# Altium schematic symbol library Audio-Power-amlifier.SCHLIB: 61 symbols
Pins are listed as number, name and electrical type; pins without a type are passive.

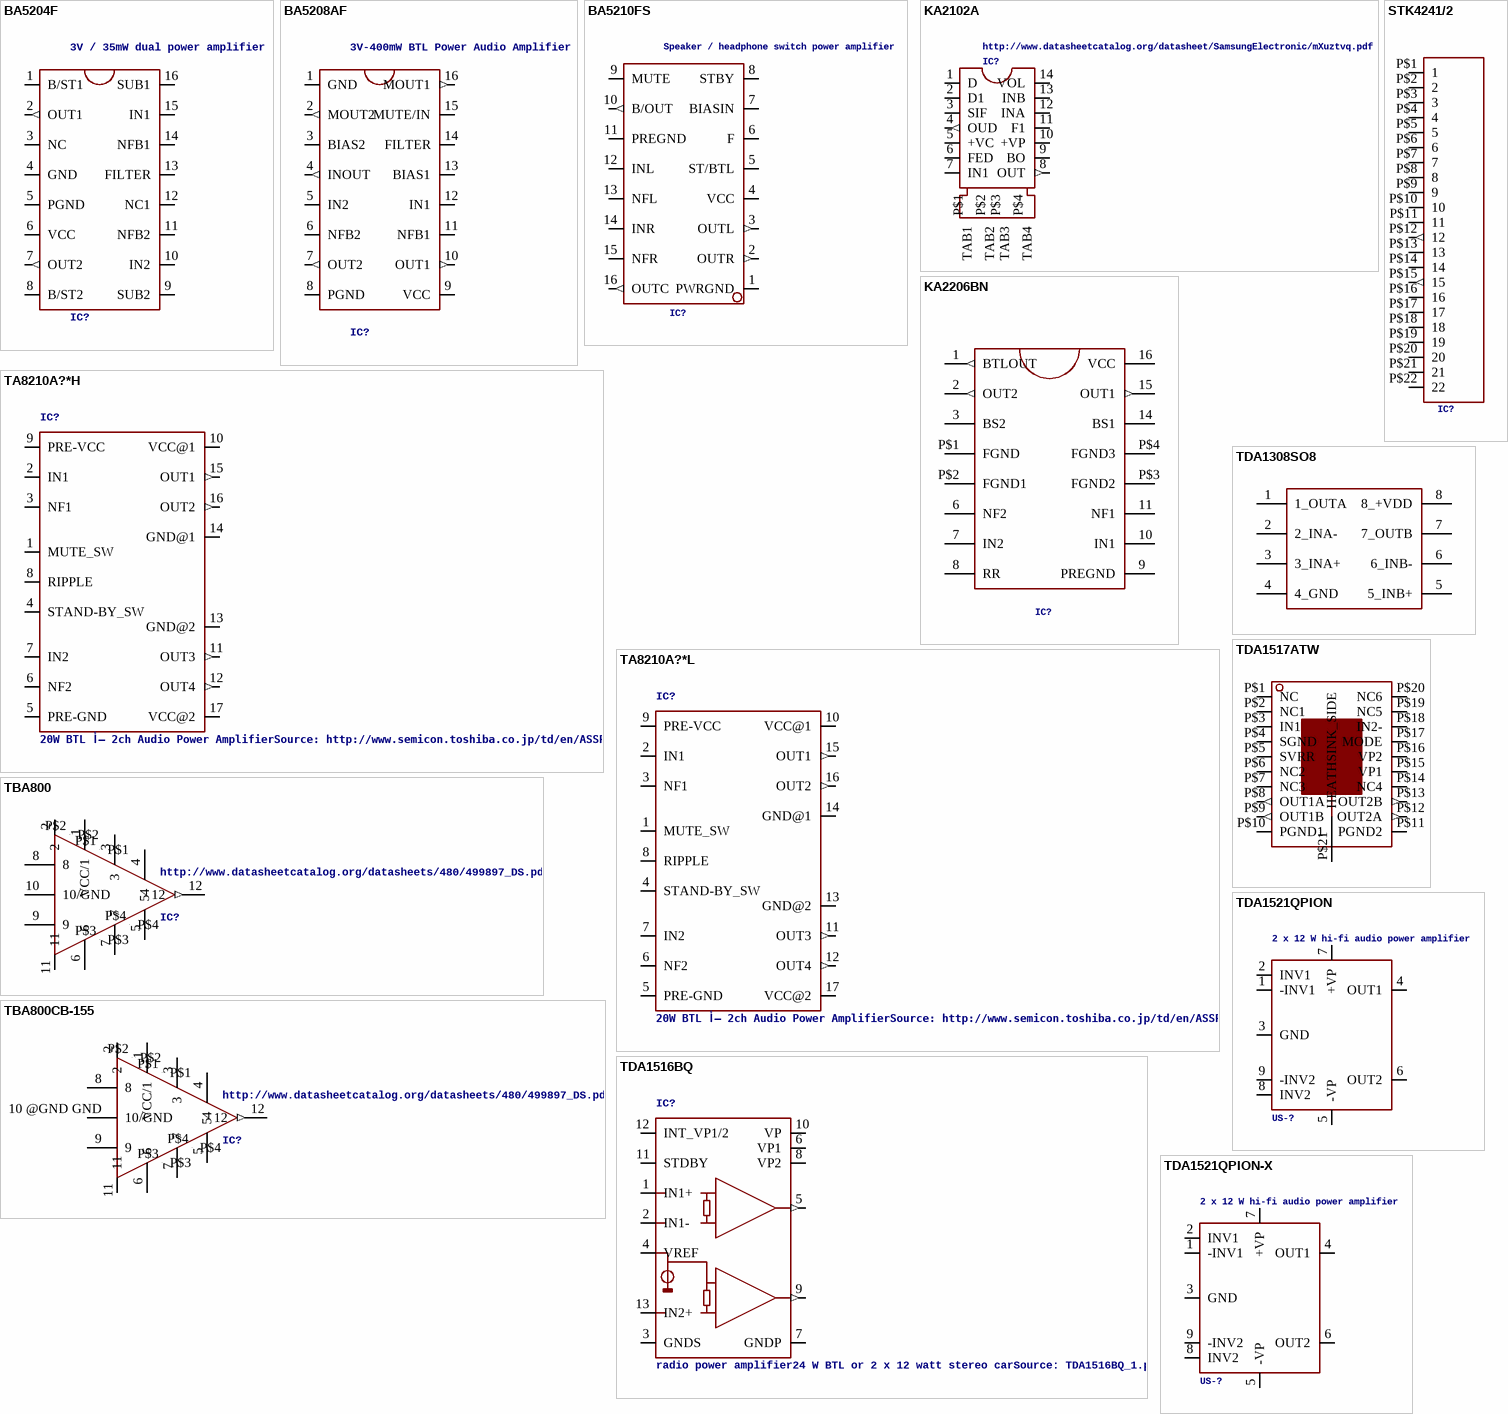
[diagram p0: symbols BA5204F to TDA1521QPION-X]

## BA5204F
designator IC?, comment 3V / 35mW dual power amplifier
GateName_1: G$1; SymbolName_1: BA5204F; LibraryName: Audio-Power-amlifier; DeviceSetName: BA5204F; Package: SOP16
footprint SOP16
pins: 1 B/ST1, 2 OUT1 (out), 3 NC, 4 GND (power), 5 PGND (power), 6 VCC (power), 7 OUT2 (out), 8 B/ST2, 9 SUB2, 10 IN2, 11 NFB2, 12 NC1, 13 FILTER, 14 NFB1, 15 IN1, 16 SUB1

## BA5208AF
designator IC?, comment 3V-400mW BTL Power Audio Amplifier
GateName_1: G$1; SymbolName_1: BA5208AF; LibraryName: Audio-Power-amlifier; DeviceSetName: BA5208AF; Package: SOP16
footprint SOP16
pins: 1 GND (power), 2 MOUT2 (out), 3 BIAS2, 4 INOUT (out), 5 IN2, 6 NFB2, 7 OUT2 (out), 8 PGND (power), 9 VCC (power), 10 OUT1 (out), 11 NFB1, 12 IN1, 13 BIAS1, 14 FILTER, 15 MUTE/IN, 16 MOUT1 (out)

## BA5210FS
designator IC?, comment Speaker / headphone switch power amplifier
GateName_1: G$1; SymbolName_1: BA5210FS; LibraryName: Audio-Power-amlifier; DeviceSetName: BA5210FS; Package: SSOP-A16
footprint SSOP-A16
pins: 1 PWRGND (power), 2 OUTR (out), 3 OUTL (out), 4 VCC (power), 5 ST/BTL, 6 F, 7 BIASIN, 8 STBY, 9 MUTE, 10 B/OUT (out), 11 PREGND (power), 12 INL, 13 NFL, 14 INR, 15 NFR, 16 OUTC (out)

## KA2102A
designator IC?, comment http://www.datasheetcatalog.org/datasheet/SamsungElectronic/mXuztvq.pdf
GateName_1: G$1; SymbolName_1: KA2102A; LibraryName: Audio-Power-amlifier; DeviceSetName: KA2102A; Package: 14-DIPH-300
footprint 14-DIPH-300
pins: 1 D, 2 D1, 3 SIF, 4 OUD (out), 5 +VC (power), 6 FED, 7 IN1, 8 OUT (out), 9 BO, 10 +VP (power), 11 F1, 12 INA, 13 INB, 14 VOL, P$1 TAB1, P$2 TAB2, P$3 TAB3, P$4 TAB4

## KA2206BN
designator IC?
GateName_1: G$1; SymbolName_1: KA2206BN; LibraryName: Audio-Power-amlifier; DeviceSetName: KA2206BN; Package: 12-DIPH-300
footprint 12-DIPH-300
pins: 1 BTLOUT (out), 2 OUT2 (out), 3 BS2, 6 NF2, 7 IN2, 8 RR, 9 PREGND (power), 10 IN1, 11 NF1, 14 BS1, 15 OUT1 (out), 16 VCC (power), P$1 FGND (power), P$2 FGND1 (power), P$3 FGND2 (power), P$4 FGND3 (power)

## STK4241/2
designator IC?
GateName_1: G$1; SymbolName_1: STK4241/2; LibraryName: Audio-Power-amlifier; DeviceSetName: STK4241/2; Package: STK4241/2
footprint STK4241/2
pins: P$1 1, P$2 2, P$3 3, P$4 4, P$5 5 (power), P$6 6, P$7 7, P$8 8, P$9 9, P$10 10, P$11 11 (power), P$12 12 (out), P$13 13 (power), P$14 14 (power), P$15 15 (out), P$16 16 (power), P$17 17, P$18 18 (power), P$19 19, P$20 20, P$21 21, P$22 22

## TA8210A?*H
designator IC?, comment 20W BTL أ— 2ch Audio Power AmplifierSource: http://www.semicon.toshiba.co.jp/td/en/ASSP/Audio_ICs/en_20050517_TA8210ALQ_datasheet.pdf
GateName_1: G$1; SymbolName_1: TA8210; DeviceName: H; DeviceSetName: TA8210A?*; LibraryName: Audio-Power-amlifier; Package: HZIP17-P-2.00
footprint HZIP17-P-2.00
pins: 1 MUTE_SW, 2 IN1, 3 NF1, 4 STAND-BY_SW, 5 PRE-GND (power), 6 NF2, 7 IN2, 8 RIPPLE, 9 PRE-VCC (power), 10 VCC@1 (power), 11 OUT3 (out), 12 OUT4 (out), 13 GND@2 (power), 14 GND@1 (power), 15 OUT1 (out), 16 OUT2 (out), 17 VCC@2 (power)

## TA8210A?*L
designator IC?, comment 20W BTL أ— 2ch Audio Power AmplifierSource: http://www.semicon.toshiba.co.jp/td/en/ASSP/Audio_ICs/en_20050517_TA8210ALQ_datasheet.pdf
GateName_1: G$1; SymbolName_1: TA8210; DeviceName: L; DeviceSetName: TA8210A?*; LibraryName: Audio-Power-amlifier; Package: HSIP17-P-2.00
footprint HSIP17-P-2.00
pins: 1 MUTE_SW, 2 IN1, 3 NF1, 4 STAND-BY_SW, 5 PRE-GND (power), 6 NF2, 7 IN2, 8 RIPPLE, 9 PRE-VCC (power), 10 VCC@1 (power), 11 OUT3 (out), 12 OUT4 (out), 13 GND@2 (power), 14 GND@1 (power), 15 OUT1 (out), 16 OUT2 (out), 17 VCC@2 (power)

## TBA800
designator IC?, comment http://www.datasheetcatalog.org/datasheets/480/499897_DS.pdf
GateName_1: G$1; SymbolName_1: TBA800; LibraryName: Audio-Power-amlifier; DeviceSetName: TBA800; Package: FINDIP12
footprint FINDIP12
pins: 1 VCC/1 (power), 2, 3, 4, 5, 6, 7, 8, 9, 10 10/GND (power), 11, 12 (out), P$1 (power), P$2 (power), P$3 (power), P$4 (power)

## TBA800CB-155
designator IC?, comment http://www.datasheetcatalog.org/datasheets/480/499897_DS.pdf
GateName_1: G$1; SymbolName_1: TBA800; DeviceName: CB-155; LibraryName: Audio-Power-amlifier; DeviceSetName: TBA800; Package: CE82
footprint CE82
pins: 1 VCC/1 (power), 2, 3, 4, 5, 6, 7, 8, 9, 10 @GND GND 10/GND (power), 11, 12 (out), P$1 (power), P$2 (power), P$3 (power), P$4 (power)

## TDA1308SO8
designator ?
GateName_1: G$1; SymbolName_1: TDA1308; DeviceName: SO8; LibraryName: Audio-Power-amlifier; DeviceSetName: TDA1308; Package: SO8
footprint SO8
pins: 1 1_OUTA, 2 2_INA-, 3 3_INA+, 4 4_GND, 5 5_INB+, 6 6_INB-, 7 7_OUTB, 8 8_+VDD

## TDA1516BQ
designator IC?, comment radio power amplifier24 W BTL or 2 x 12 watt stereo carSource: TDA1516BQ_1.pdf
GateName_1: G$1; SymbolName_1: TDA1516; LibraryName: Audio-Power-amlifier; DeviceSetName: TDA1516BQ; Package: MULTIWAT-SIL13
footprint MULTIWAT-SIL13
pins: 1 IN1+, 2 IN1-, 3 GNDS (power), 4 VREF, 5 OUT1 (out), 6 VP1 (power), 7 GNDP (power), 8 VP2 (power), 9 OUT2 (out), 10 VP, 11 STDBY, 12 INT_VP1/2, 13 IN2+

## TDA1517ATW
designator IC?, comment 8 W BTL or 2 آ´ 4 W SE power amplifier  (value not drawn)
GateName_1: G$1; SymbolName_1: TDA1517ATW; LibraryName: Audio-Power-amlifier; DeviceSetName: TDA1517ATW; Package: SOT527-1
footprint SOT527-1
pins: P$1 NC, P$2 NC1, P$3 IN1, P$4 SGND (power), P$5 SVRR, P$6 NC2, P$7 NC3, P$8 OUT1A (out), P$9 OUT1B (out), P$10 PGND1 (power), P$11 PGND2 (power), P$12 OUT2A (out), P$13 OUT2B (out), P$14 NC4, P$15 VP1 (power), P$16 VP2 (power), P$17 MODE, P$18 IN2-, P$19 NC5, P$20 NC6, P$21 HEATHSINK_SIDE (power)

## TDA1521QPION
designator US-?, comment 2 x 12 W hi-fi audio power amplifier
GateName_1: TDA1521Q; DeviceName: PION; SymbolName_1: TDA1521Q; LibraryName: Audio-Power-amlifier; DeviceSetName: TDA1521Q; Package: SOT131-2H
footprint SOT131-2H
pins: 1 -INV1, 2 INV1, 3 GND, 4 OUT1, 5 -VP, 6 OUT2, 7 +VP, 8 INV2, 9 -INV2

## TDA1521QPION-X
designator US-?, comment 2 x 12 W hi-fi audio power amplifier
GateName_1: TDA1521Q; DeviceName: PION-X; SymbolName_1: TDA1521Q; LibraryName: Audio-Power-amlifier; DeviceSetName: TDA1521Q; Package: SOT131-2VX
footprint SOT131-2VX
pins: 1 -INV1, 2 INV1, 3 GND, 4 OUT1, 5 -VP, 6 OUT2, 7 +VP, 8 INV2, 9 -INV2

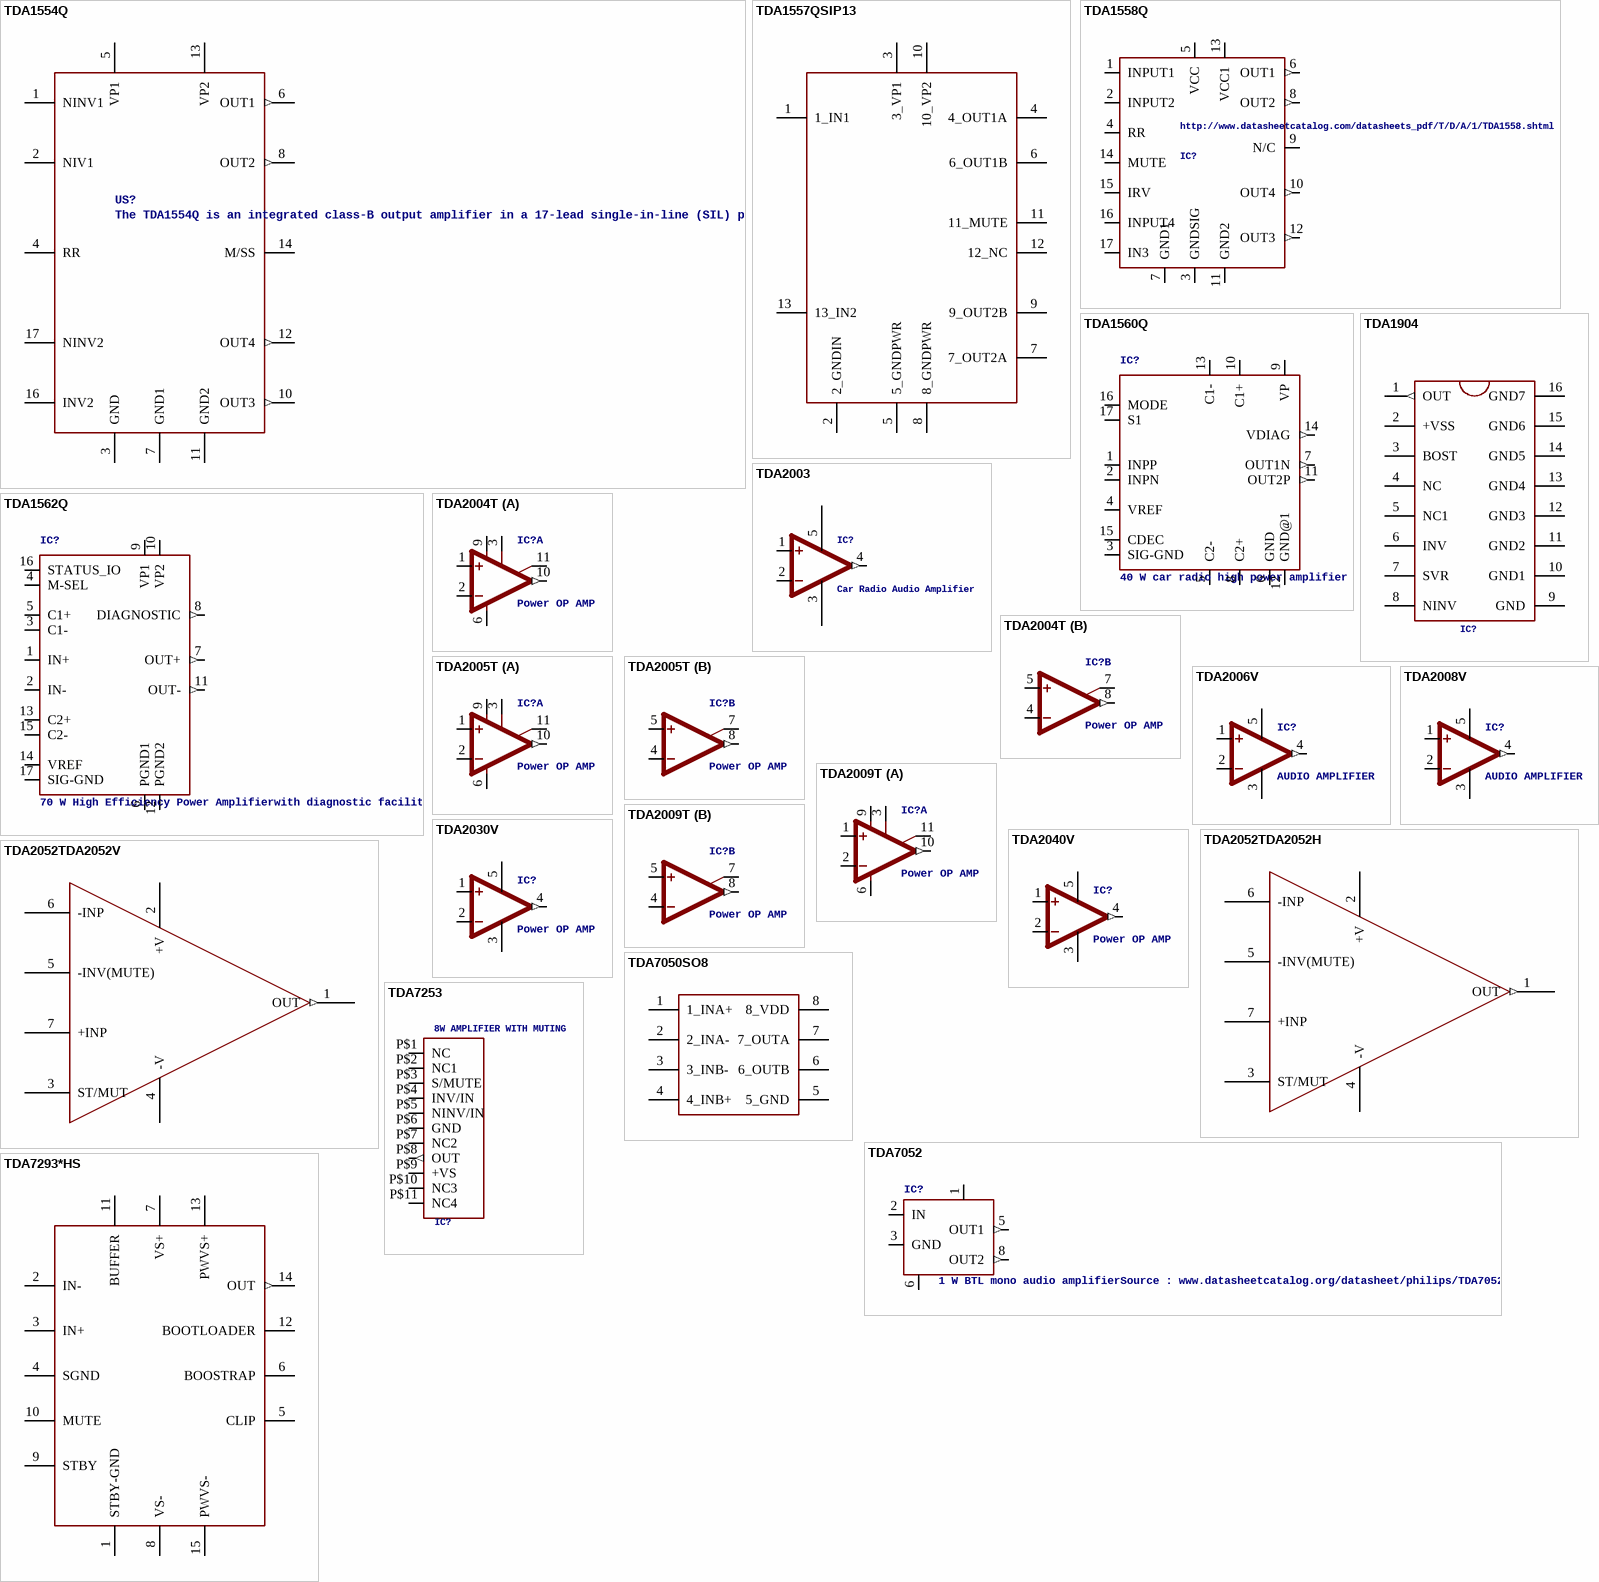
[diagram p1: symbols TDA1554Q to TDA7293*HS]

## TDA1554Q
designator US?, comment The TDA1554Q is an integrated class-B output amplifier in a 17-lead single-in-line (SIL) plastic power package. The circuit contains 4 x 11 W single-ended or 2 x 22 W bridge amplifiers. The device is primarily developed for car radio applications.
GateName_1: G$1; DeviceName: Q; SymbolName_1: TDA1554; LibraryName: Audio-Power-amlifier; DeviceSetName: TDA1554; Package: SOT243-1
footprint SOT243-1
pins: 1 NINV1, 2 NIV1, 3 GND (power), 4 RR, 5 VP1 (power), 6 OUT1 (out), 7 GND1 (power), 8 OUT2 (out), 10 OUT3 (out), 11 GND2 (power), 12 OUT4 (out), 13 VP2 (power), 14 M/SS, 16 INV2, 17 NINV2

## TDA1557QSIP13
designator ?
GateName_1: G$1; SymbolName_1: TDA1557; DeviceName: SIP13; DeviceSetName: TDA1557Q; LibraryName: Audio-Power-amlifier; Package: SIP13
footprint SIP13
pins: 1 1_IN1, 2 2_GNDIN, 3 3_VP1, 4 4_OUT1A, 5 5_GNDPWR, 6 6_OUT1B, 7 7_OUT2A, 8 8_GNDPWR, 9 9_OUT2B, 10 10_VP2, 11 11_MUTE, 12 12_NC, 13 13_IN2

## TDA1558Q
designator IC?, comment http://www.datasheetcatalog.com/datasheets_pdf/T/D/A/1/TDA1558.shtml
GateName_1: G$1; SymbolName_1: TDA1558Q; LibraryName: Audio-Power-amlifier; DeviceSetName: TDA1558Q; Package: SOT243-1
footprint SOT243-1
pins: 1 INPUT1, 2 INPUT2, 3 GNDSIG (power), 4 RR, 5 VCC (power), 6 OUT1 (out), 7 GND1 (power), 8 OUT2 (out), 9 N/C, 10 OUT4 (out), 11 GND2 (power), 12 OUT3 (out), 13 VCC1 (power), 14 MUTE, 15 IRV, 16 INPUT4, 17 IN3

## TDA1560Q
designator IC?, comment 40 W car radio high power amplifier
GateName_1: G$1; SymbolName_1: TDA1560Q; LibraryName: Audio-Power-amlifier; DeviceSetName: TDA1560Q; Package: MULTIWAT-SIL17
footprint MULTIWAT-SIL17
pins: 1 INPP, 2 INPN, 3 SIG-GND, 4 VREF, 5 C2-, 6 GND (power), 7 OUT1N (out), 8 C2+, 9 VP (power), 10 C1+, 11 OUT2P (out), 12 GND@1 (power), 13 C1-, 14 VDIAG (out), 15 CDEC, 16 MODE, 17 S1

## TDA1562Q
designator IC?, comment 70 W High Efficiency Power Amplifierwith diagnostic facility
GateName_1: G$1; SymbolName_1: TDA1562; DeviceName: Q; LibraryName: Audio-Power-amlifier; DeviceSetName: TDA1562; Package: MULTIWAT-SIL17
footprint MULTIWAT-SIL17
pins: 1 IN+, 2 IN-, 3 C1-, 4 M-SEL, 5 C1+, 6 PGND1 (power), 7 OUT+ (out), 8 DIAGNOSTIC (out), 9 VP1 (power), 10 VP2 (power), 11 OUT- (out), 12 PGND2 (power), 13 C2+, 14 VREF, 15 C2-, 16 STATUS_IO, 17 SIG-GND

## TDA1904
designator IC?
GateName_1: G$1; SymbolName_1: TDA1904; LibraryName: Audio-Power-amlifier; DeviceSetName: TDA1904; Package: SOT38-1
footprint SOT38-1
pins: 1 OUT (out), 2 +VSS (power), 3 BOST, 4 NC, 5 NC1, 6 INV, 7 SVR, 8 NINV, 9 GND (power), 10 GND1 (power), 11 GND2 (power), 12 GND3 (power), 13 GND4 (power), 14 GND5 (power), 15 GND6 (power), 16 GND7 (power)

## TDA2003
designator IC?, comment Car Radio Audio Amplifier
GateName_1: IC; SymbolName_1: TDA200X; DeviceSetName: TDA2003; LibraryName: Audio-Power-amlifier; Package: PENTAWATT-V
footprint PENTAWATT-V
pins: 1 +IN, 2 -IN, 3 GND (power), 4 OUT (out), 5 VCC (power)

## TDA2004T
designator IC?, comment Power OP AMP
GateName_1: A; SymbolName_1: 2005; GateName_2: B; SymbolName_2: 2005A; DeviceName: T; DeviceSetName: TDA2004; LibraryName: Audio-Power-amlifier; Package: SIP11
footprint SIP11
part A pins: 1 +IN, 2 -IN, 3 SVRR, 6 GND (power), 9 V+ (power), 10 OUT (out), 11 BTSP
part B pins: 4 -IN, 5 +IN, 7 BTSP, 8 OUT (out)

## TDA2005T
designator IC?, comment Power OP AMP
GateName_1: A; SymbolName_1: 2005; GateName_2: B; SymbolName_2: 2005A; DeviceName: T; DeviceSetName: TDA2005; LibraryName: Audio-Power-amlifier; Package: SIP11
footprint SIP11
part A pins: 1 +IN, 2 -IN, 3 SVRR, 6 GND (power), 9 V+ (power), 10 OUT (out), 11 BTSP
part B pins: 4 -IN, 5 +IN, 7 BTSP, 8 OUT (out)

## TDA2006V
designator IC?, comment AUDIO AMPLIFIER
GateName_1: A; SymbolName_1: OPAMP+-; DeviceName: V; DeviceSetName: TDA2006; LibraryName: Audio-Power-amlifier; Package: CB360
footprint CB360
pins: 1 +IN, 2 -IN, 3 V- (power), 4 OUT (out), 5 V+ (power)

## TDA2008V
designator IC?, comment AUDIO AMPLIFIER
GateName_1: A; SymbolName_1: OPAMP+GN; DeviceName: V; DeviceSetName: TDA2008; LibraryName: Audio-Power-amlifier; Package: CB360
footprint CB360
pins: 1 +IN, 2 -IN, 3 GND (power), 4 OUT (out), 5 V+ (power)

## TDA2009T
designator IC?, comment Power OP AMP
GateName_1: A; SymbolName_1: 2005; GateName_2: B; SymbolName_2: 2005A; DeviceName: T; DeviceSetName: TDA2009; LibraryName: Audio-Power-amlifier; Package: SIP11
footprint SIP11
part A pins: 1 +IN, 2 -IN, 3 SVRR, 6 GND (power), 9 V+ (power), 10 OUT (out), 11 BTSP
part B pins: 4 -IN, 5 +IN, 7 BTSP, 8 OUT (out)

## TDA2030V
designator IC?, comment Power OP AMP
GateName_1: A; SymbolName_1: OPAMP+GN; DeviceName: V; DeviceSetName: TDA2030; LibraryName: Audio-Power-amlifier; Package: CB360
footprint CB360
pins: 1 +IN, 2 -IN, 3 GND (power), 4 OUT (out), 5 V+ (power)

## TDA2040V
designator IC?, comment Power OP AMP
GateName_1: A; SymbolName_1: OPAMP+-; DeviceName: V; DeviceSetName: TDA2040; LibraryName: Audio-Power-amlifier; Package: CB360
footprint CB360
pins: 1 +IN, 2 -IN, 3 V- (power), 4 OUT (out), 5 V+ (power)

## TDA2052TDA2052H
designator ?, comment TDA2052   60W Hi-Fi AUDIO POWER AMPLIFIER                           WITH MUTE / STAND-BY  (value not drawn)
GateName_1: G$1; DeviceName: TDA2052H; SymbolName_1: TDA2052; LibraryName: Audio-Power-amlifier; DeviceSetName: TDA2052; Package: HEPTAW.H
footprint HEPTAW.H
pins: 1 OUT (out), 2 +V (power), 3 ST/MUT, 4 -V (power), 5 -INV(MUTE), 6 -INP, 7 +INP

## TDA2052TDA2052V
designator ?, comment TDA2052   60W Hi-Fi AUDIO POWER AMPLIFIER                           WITH MUTE / STAND-BY  (value not drawn)
GateName_1: G$1; DeviceName: TDA2052V; SymbolName_1: TDA2052; LibraryName: Audio-Power-amlifier; DeviceSetName: TDA2052; Package: HEPTAWATT
footprint HEPTAWATT
pins: 1 OUT (out), 2 +V (power), 3 ST/MUT, 4 -V (power), 5 -INV(MUTE), 6 -INP, 7 +INP

## TDA7050SO8
designator ?
GateName_1: G$1; SymbolName_1: TDA7050; DeviceName: SO8; LibraryName: Audio-Power-amlifier; DeviceSetName: TDA7050; Package: SO8
footprint SO8
pins: 1 1_INA+, 2 2_INA-, 3 3_INB-, 4 4_INB+, 5 5_GND, 6 6_OUTB, 7 7_OUTA, 8 8_VDD

## TDA7052
designator IC?, comment 1 W BTL mono audio amplifierSource : www.datasheetcatalog.org/datasheet/philips/TDA7052_CNV_2.pdf
GateName_1: G$1; SymbolName_1: TDA7052; LibraryName: Audio-Power-amlifier; DeviceSetName: TDA7052; Package: DIL08
footprint DIL08
pins: 1 VP (oe), 2 IN, 3 GND (oe), 5 OUT1 (out), 6 GND@ (oe), 8 OUT2 (out)

## TDA7253
designator IC?, comment 8W AMPLIFIER WITH MUTING
GateName_1: G$1; SymbolName_1: TDA7253; LibraryName: Audio-Power-amlifier; DeviceSetName: TDA7253; Package: CLIPWATT11
footprint CLIPWATT11
pins: P$1 NC, P$2 NC1, P$3 S/MUTE, P$4 INV/IN, P$5 NINV/IN, P$6 GND (power), P$7 NC2, P$8 OUT (out), P$9 +VS (power), P$10 NC3, P$11 NC4

## TDA7293*HS
designator IC?, comment 120V - 100W DMOS Audio Amplifier with Mute/Standby  (value not drawn)
GateName_1: G$1; SymbolName_1: TDA7293; DeviceName: HS; DeviceSetName: TDA7293*; LibraryName: Audio-Power-amlifier; Package: MULTIWATT15H
footprint MULTIWATT15H
pins: 1 STBY-GND (power), 2 IN-, 3 IN+, 4 SGND (power), 5 CLIP (oc), 6 BOOSTRAP, 7 VS+ (power), 8 VS- (power), 9 STBY, 10 MUTE, 11 BUFFER, 12 BOOTLOADER, 13 PWVS+ (power), 14 OUT (out), 15 PWVS- (power)

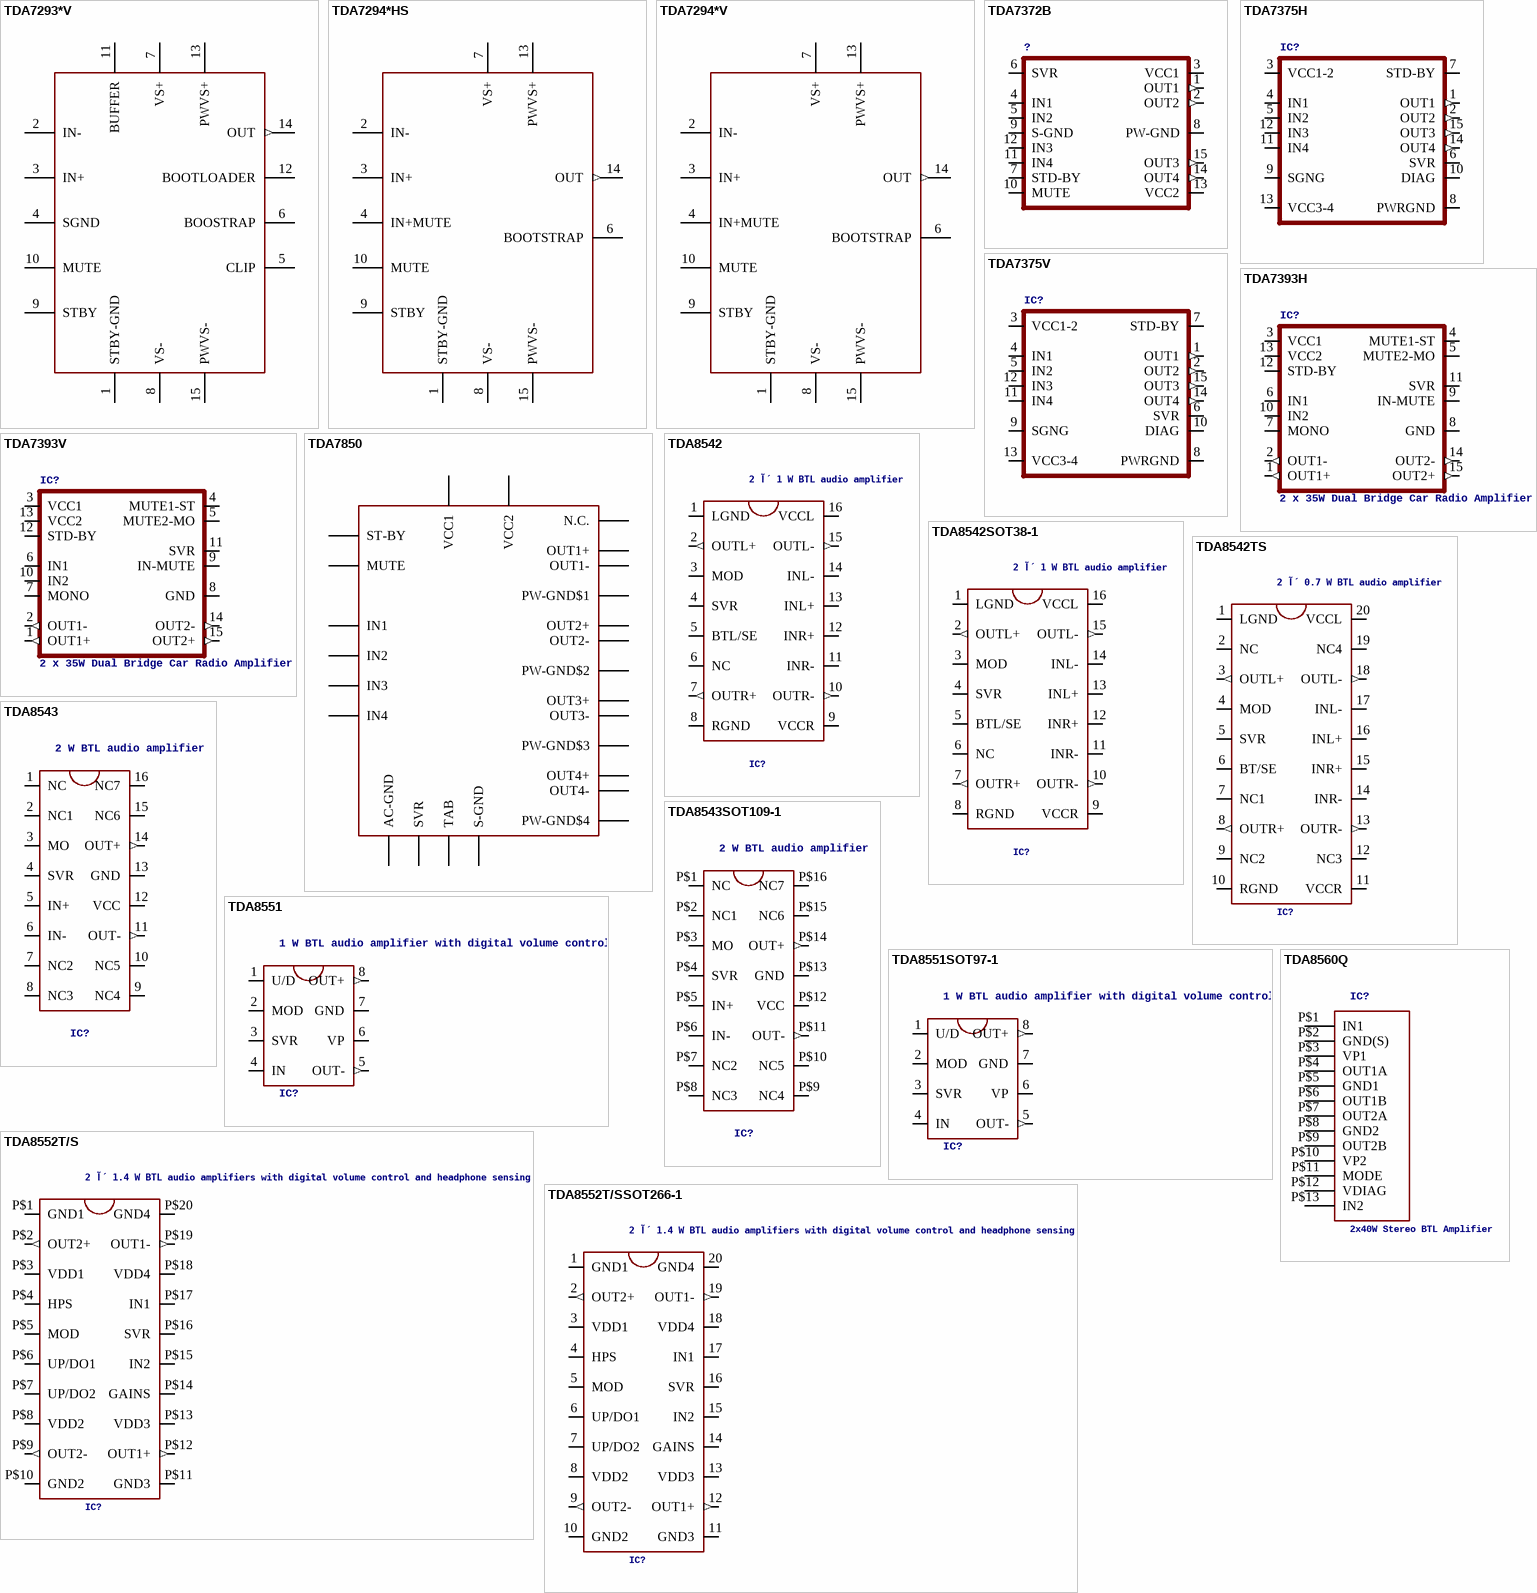
[diagram p2: symbols TDA7293*V to TDA8560Q]

## TDA7293*V
designator IC?, comment 120V - 100W DMOS Audio Amplifier with Mute/Standby  (value not drawn)
GateName_1: G$1; SymbolName_1: TDA7293; DeviceName: V; DeviceSetName: TDA7293*; LibraryName: Audio-Power-amlifier; Package: MULTIWATT15V
footprint MULTIWATT15V
pins: 1 STBY-GND (power), 2 IN-, 3 IN+, 4 SGND (power), 5 CLIP (oc), 6 BOOSTRAP, 7 VS+ (power), 8 VS- (power), 9 STBY, 10 MUTE, 11 BUFFER, 12 BOOTLOADER, 13 PWVS+ (power), 14 OUT (out), 15 PWVS- (power)

## TDA7294*HS
designator IC?, comment 100V - 100W DMOS Audio Amplifier with Mute/Standby  (value not drawn)
GateName_1: G$1; SymbolName_1: TDA7294; DeviceName: HS; DeviceSetName: TDA7294*; LibraryName: Audio-Power-amlifier; Package: MULTIWATT15H
footprint MULTIWATT15H
pins: 1 STBY-GND (power), 2 IN-, 3 IN+, 4 IN+MUTE (power), 6 BOOTSTRAP, 7 VS+ (power), 8 VS- (power), 9 STBY, 10 MUTE, 13 PWVS+ (power), 14 OUT (out), 15 PWVS- (power)

## TDA7294*V
designator IC?, comment 100V - 100W DMOS Audio Amplifier with Mute/Standby  (value not drawn)
GateName_1: G$1; SymbolName_1: TDA7294; DeviceName: V; DeviceSetName: TDA7294*; LibraryName: Audio-Power-amlifier; Package: MULTIWATT15V
footprint MULTIWATT15V
pins: 1 STBY-GND (power), 2 IN-, 3 IN+, 4 IN+MUTE (power), 6 BOOTSTRAP, 7 VS+ (power), 8 VS- (power), 9 STBY, 10 MUTE, 13 PWVS+ (power), 14 OUT (out), 15 PWVS- (power)

## TDA7372B
designator ?
GateName_1: G$1; SymbolName_1: TDA7372B; LibraryName: Audio-Power-amlifier; DeviceSetName: TDA7372B; Package: MULTIWATT-15V
footprint MULTIWATT-15V
pins: 1 OUT1 (out), 2 OUT2 (out), 3 VCC1 (power), 4 IN1, 5 IN2, 6 SVR, 7 STD-BY, 8 PW-GND (power), 9 S-GND, 10 MUTE, 11 IN4, 12 IN3, 13 VCC2 (power), 14 OUT4 (out), 15 OUT3 (out)

## TDA7375H
designator IC?
GateName_1: G$1; SymbolName_1: TDA7375; DeviceName: H; LibraryName: Audio-Power-amlifier; DeviceSetName: TDA7375; Package: MULTIWATT-15H
footprint MULTIWATT-15H
pins: 1 OUT1 (out), 2 OUT2 (out), 3 VCC1-2 (power), 4 IN1, 5 IN2, 6 SVR, 7 STD-BY, 8 PWRGND (power), 9 SGNG (power), 10 DIAG, 11 IN4, 12 IN3, 13 VCC3-4 (power), 14 OUT4 (out), 15 OUT3 (out)

## TDA7375V
designator IC?
GateName_1: G$1; SymbolName_1: TDA7375; DeviceName: V; LibraryName: Audio-Power-amlifier; DeviceSetName: TDA7375; Package: MULTIWATT-15V
footprint MULTIWATT-15V
pins: 1 OUT1 (out), 2 OUT2 (out), 3 VCC1-2 (power), 4 IN1, 5 IN2, 6 SVR, 7 STD-BY, 8 PWRGND (power), 9 SGNG (power), 10 DIAG, 11 IN4, 12 IN3, 13 VCC3-4 (power), 14 OUT4 (out), 15 OUT3 (out)

## TDA7393H
designator IC?, comment 2 x 35W Dual Bridge Car Radio Amplifier
GateName_1: G$1; SymbolName_1: TDA7393; DeviceName: H; LibraryName: Audio-Power-amlifier; DeviceSetName: TDA7393; Package: MULTIWATT-15H
footprint MULTIWATT-15H
pins: 1 OUT1+ (out), 2 OUT1- (out), 3 VCC1 (power), 4 MUTE1-ST, 5 MUTE2-MO, 6 IN1, 7 MONO, 8 GND (power), 9 IN-MUTE, 10 IN2, 11 SVR, 12 STD-BY, 13 VCC2 (power), 14 OUT2- (out), 15 OUT2+ (out)

## TDA7393V
designator IC?, comment 2 x 35W Dual Bridge Car Radio Amplifier
GateName_1: G$1; SymbolName_1: TDA7393; DeviceName: V; LibraryName: Audio-Power-amlifier; DeviceSetName: TDA7393; Package: MULTIWATT-15V
footprint MULTIWATT-15V
pins: 1 OUT1+ (out), 2 OUT1- (out), 3 VCC1 (power), 4 MUTE1-ST, 5 MUTE2-MO, 6 IN1, 7 MONO, 8 GND (power), 9 IN-MUTE, 10 IN2, 11 SVR, 12 STD-BY, 13 VCC2 (power), 14 OUT2- (out), 15 OUT2+ (out)

## TDA7850
designator ?
GateName_1: G$1; SymbolName_1: TDA7386; LibraryName: Audio-Power-amlifier; DeviceSetName: TDA7386; Package: FLEXIWATT25
footprint FLEXIWATT25
pins: P$1 TAB, P$2 PW-GND$2, P$3 OUT2-, P$4 ST-BY, P$5 OUT2+, P$6 VCC1, P$7 OUT1-, P$8 PW-GND$1, P$9 OUT1+, P$10 SVR, P$11 IN1, P$12 IN2, P$13 S-GND, P$14 IN4, P$15 IN3, P$16 AC-GND, P$17 OUT3+, P$18 PW-GND$3, P$19 OUT3-, P$20 VCC2, P$21 OUT4+, P$22 MUTE, P$23 OUT4-, P$24 PW-GND$4, P$25 N.C.

## TDA8542
designator IC?, comment 2 آ´ 1 W BTL audio amplifier
GateName_1: G$1; SymbolName_1: TDA8542; LibraryName: Audio-Power-amlifier; DeviceSetName: TDA8542; Package: SOT162-1
footprint SOT162-1
pins: 1 LGND (power), 2 OUTL+ (out), 3 MOD, 4 SVR, 5 BTL/SE, 6 NC, 7 OUTR+ (out), 8 RGND (power), 9 VCCR (power), 10 OUTR- (out), 11 INR-, 12 INR+, 13 INL+, 14 INL-, 15 OUTL- (out), 16 VCCL (power)

## TDA8542SOT38-1
designator IC?, comment 2 آ´ 1 W BTL audio amplifier
GateName_1: G$1; SymbolName_1: TDA8542; DeviceName: SOT38-1; LibraryName: Audio-Power-amlifier; DeviceSetName: TDA8542; Package: SOT38-1
footprint SOT38-1
pins: 1 LGND (power), 2 OUTL+ (out), 3 MOD, 4 SVR, 5 BTL/SE, 6 NC, 7 OUTR+ (out), 8 RGND (power), 9 VCCR (power), 10 OUTR- (out), 11 INR-, 12 INR+, 13 INL+, 14 INL-, 15 OUTL- (out), 16 VCCL (power)

## TDA8542TS
designator IC?, comment 2 آ´ 0.7 W BTL audio amplifier
GateName_1: G$1; SymbolName_1: TDA8542TS; LibraryName: Audio-Power-amlifier; DeviceSetName: TDA8542TS; Package: SOT266-1
footprint SOT266-1
pins: 1 LGND (power), 2 NC, 3 OUTL+ (out), 4 MOD, 5 SVR, 6 BT/SE, 7 NC1, 8 OUTR+ (out), 9 NC2, 10 RGND (power), 11 VCCR (power), 12 NC3, 13 OUTR- (out), 14 INR-, 15 INR+, 16 INL+, 17 INL-, 18 OUTL- (out), 19 NC4, 20 VCCL (power)

## TDA8543
designator IC?, comment 2 W BTL audio amplifier
GateName_1: G$1; SymbolName_1: TDA8543; LibraryName: Audio-Power-amlifier; DeviceSetName: TDA8543; Package: SOT38-1
footprint SOT38-1
pins: 1 NC, 2 NC1, 3 MO, 4 SVR, 5 IN+, 6 IN-, 7 NC2, 8 NC3, 9 NC4, 10 NC5, 11 OUT- (out), 12 VCC (power), 13 GND (power), 14 OUT+ (out), 15 NC6, 16 NC7

## TDA8543SOT109-1
designator IC?, comment 2 W BTL audio amplifier
GateName_1: G$1; SymbolName_1: TDA8543; DeviceName: SOT109-1; LibraryName: Audio-Power-amlifier; DeviceSetName: TDA8543; Package: SOT109-1
footprint SOT109-1
pins: P$1 NC, P$2 NC1, P$3 MO, P$4 SVR, P$5 IN+, P$6 IN-, P$7 NC2, P$8 NC3, P$9 NC4, P$10 NC5, P$11 OUT- (out), P$12 VCC (power), P$13 GND (power), P$14 OUT+ (out), P$15 NC6, P$16 NC7

## TDA8551
designator IC?, comment 1 W BTL audio amplifier with digital volume control
GateName_1: G$1; SymbolName_1: TDA8551; LibraryName: Audio-Power-amlifier; DeviceSetName: TDA8551; Package: SOT96-1
footprint SOT96-1
pins: 1 U/D, 2 MOD, 3 SVR, 4 IN, 5 OUT- (out), 6 VP (power), 7 GND (power), 8 OUT+ (out)

## TDA8551SOT97-1
designator IC?, comment 1 W BTL audio amplifier with digital volume control
GateName_1: G$1; SymbolName_1: TDA8551; DeviceName: SOT97-1; LibraryName: Audio-Power-amlifier; DeviceSetName: TDA8551; Package: SOT97-1
footprint SOT97-1
pins: 1 U/D, 2 MOD, 3 SVR, 4 IN, 5 OUT- (out), 6 VP (power), 7 GND (power), 8 OUT+ (out)

## TDA8552T/S
designator IC?, comment 2 آ´ 1.4 W BTL audio amplifiers with digital volume control and headphone sensing
GateName_1: G$1; SymbolName_1: TDA8552T/S; LibraryName: Audio-Power-amlifier; DeviceSetName: TDA8552T/S; Package: SOT163-1
footprint SOT163-1
pins: P$1 GND1 (power), P$2 OUT2+ (out), P$3 VDD1 (power), P$4 HPS, P$5 MOD, P$6 UP/DO1, P$7 UP/DO2, P$8 VDD2 (power), P$9 OUT2- (out), P$10 GND2 (power), P$11 GND3 (power), P$12 OUT1+ (out), P$13 VDD3 (power), P$14 GAINS, P$15 IN2, P$16 SVR, P$17 IN1, P$18 VDD4 (power), P$19 OUT1- (out), P$20 GND4 (power)

## TDA8552T/SSOT266-1
designator IC?, comment 2 آ´ 1.4 W BTL audio amplifiers with digital volume control and headphone sensing
GateName_1: G$1; SymbolName_1: TDA8552T/S; DeviceName: SOT266-1; LibraryName: Audio-Power-amlifier; DeviceSetName: TDA8552T/S; Package: SOT266-1
footprint SOT266-1
pins: 1 GND1 (power), 2 OUT2+ (out), 3 VDD1 (power), 4 HPS, 5 MOD, 6 UP/DO1, 7 UP/DO2, 8 VDD2 (power), 9 OUT2- (out), 10 GND2 (power), 11 GND3 (power), 12 OUT1+ (out), 13 VDD3 (power), 14 GAINS, 15 IN2, 16 SVR, 17 IN1, 18 VDD4 (power), 19 OUT1- (out), 20 GND4 (power)

## TDA8560Q
designator IC?, comment 2x40W Stereo BTL Amplifier
GateName_1: G$1; SymbolName_1: TDA8560Q; LibraryName: Audio-Power-amlifier; DeviceSetName: TDA8560Q; Package: SOT141-6
footprint SOT141-6
pins: P$1 IN1, P$2 GND(S), P$3 VP1, P$4 OUT1A, P$5 GND1, P$6 OUT1B, P$7 OUT2A, P$8 GND2, P$9 OUT2B, P$10 VP2, P$11 MODE, P$12 VDIAG, P$13 IN2

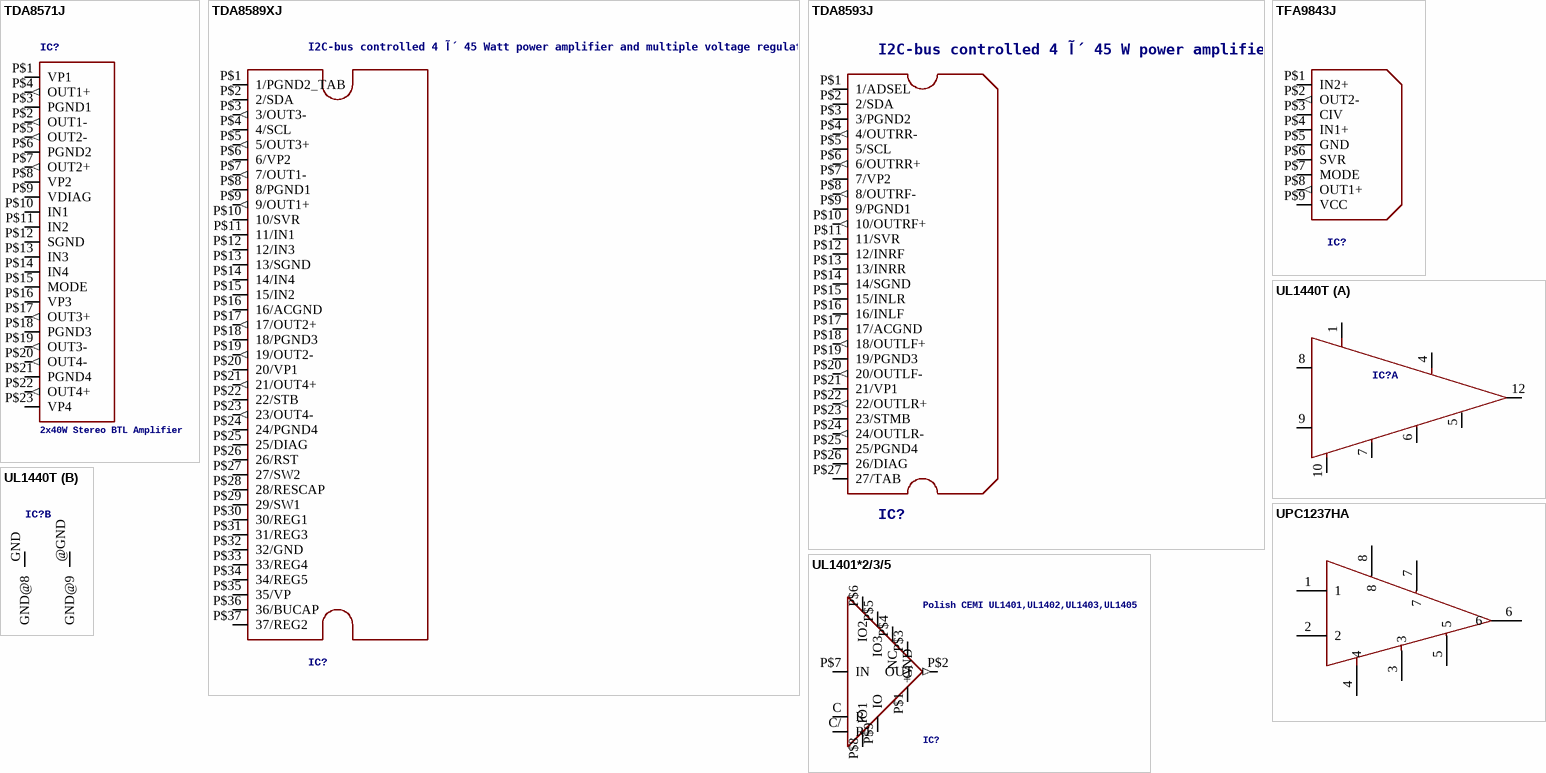
[diagram p3: symbols TDA8571J to UPC1237HA]

## TDA8571J
designator IC?, comment 2x40W Stereo BTL Amplifier
GateName_1: G$1; SymbolName_1: TDA8571J; LibraryName: Audio-Power-amlifier; DeviceSetName: TDA8571J; Package: SOT411-1
footprint SOT411-1
pins: P$1 VP1 (power), P$2 OUT1- (out), P$3 PGND1 (power), P$4 OUT1+ (out), P$5 OUT2- (out), P$6 PGND2 (power), P$7 OUT2+ (out), P$8 VP2 (power), P$9 VDIAG, P$10 IN1, P$11 IN2, P$12 SGND (power), P$13 IN3, P$14 IN4, P$15 MODE, P$16 VP3 (power), P$17 OUT3+ (out), P$18 PGND3 (power), P$19 OUT3- (out), P$20 OUT4- (out), P$21 PGND4 (power), P$22 OUT4+ (out), P$23 VP4 (power)

## TDA8589XJ
designator IC?, comment I2C-bus controlled 4 آ´ 45 Watt power amplifier and multiple voltage regulator
GateName_1: G$1; SymbolName_1: TDA8589XJ; LibraryName: Audio-Power-amlifier; DeviceSetName: TDA8589XJ; Package: SOT725-1
footprint SOT725-1
pins: P$1 1/PGND2_TAB (power), P$2 2/SDA, P$3 3/OUT3- (out), P$4 4/SCL, P$5 5/OUT3+ (out), P$6 6/VP2 (power), P$7 7/OUT1- (out), P$8 8/PGND1 (power), P$9 9/OUT1+ (out), P$10 10/SVR, P$11 11/IN1, P$12 12/IN3, P$13 13/SGND (power), P$14 14/IN4, P$15 15/IN2, P$16 16/ACGND (power), P$17 17/OUT2+ (out), P$18 18/PGND3 (power), P$19 19/OUT2- (out), P$20 20/VP1 (power), P$21 21/OUT4+ (out), P$22 22/STB, P$23 23/OUT4- (out), P$24 24/PGND4 (power), P$25 25/DIAG, P$26 26/RST, P$27 27/SW2, P$28 28/RESCAP, P$29 29/SW1, P$30 30/REG1, P$31 31/REG3, P$32 32/GND (power), P$33 33/REG4, P$34 34/REG5, P$35 35/VP (power), P$36 36/BUCAP, P$37 37/REG2

## TDA8593J
designator IC?, comment I2C-bus controlled 4 آ´ 45 W power amplifier
GateName_1: G$1; SymbolName_1: TDA8593J; LibraryName: Audio-Power-amlifier; DeviceSetName: TDA8593J; Package: SOT767-1
footprint SOT767-1
pins: P$1 1/ADSEL, P$2 2/SDA, P$3 3/PGND2 (power), P$4 4/OUTRR- (out), P$5 5/SCL, P$6 6/OUTRR+ (out), P$7 7/VP2 (power), P$8 8/OUTRF- (out), P$9 9/PGND1 (power), P$10 10/OUTRF+ (out), P$11 11/SVR, P$12 12/INRF, P$13 13/INRR, P$14 14/SGND (power), P$15 15/INLR, P$16 16/INLF, P$17 17/ACGND (power), P$18 18/OUTLF+ (out), P$19 19/PGND3 (power), P$20 20/OUTLF- (out), P$21 21/VP1 (power), P$22 22/OUTLR+ (out), P$23 23/STMB, P$24 24/OUTLR- (out), P$25 25/PGND4 (power), P$26 26/DIAG, P$27 27/TAB

## TFA9843J
designator IC?
GateName_1: G$1; SymbolName_1: TFA9843J; LibraryName: Audio-Power-amlifier; DeviceSetName: TFA9843J; Package: SOT523-1
footprint SOT523-1
pins: P$1 IN2+, P$2 OUT2- (out), P$3 CIV, P$4 IN1+, P$5 GND (power), P$6 SVR, P$7 MODE, P$8 OUT1+ (out), P$9 VCC (power)

## UL1401*2/3/5
designator IC?, comment Polish CEMI UL1401,UL1402,UL1403,UL1405
GateName_1: G$1; SymbolName_1: UL140*; DeviceSetName: UL1401*2/3/5; LibraryName: Audio-Power-amlifier; Package: CE-50/TO3
footprint CE-50/TO3
pins: C R (power), C/ R1 (power), P$1 GND (power), P$2 OUT (out), P$3 +V (power), P$4 NC, P$5 IO3, P$6 IO2, P$7 IN, P$8 IO1, P$9 IO

## UL1440T
designator IC?
GateName_1: 1; SymbolName_1: UL1440; GateName_2: P; SymbolName_2: 2GND; DeviceName: T; LibraryName: Audio-Power-amlifier; DeviceSetName: UL1440; Package: CE82
footprint CE82
part A pins: 1 VCC (power), 4 BOSTRAP, 5 FCORE, 6 F_BACK, 7 TW, 8 IN, 9 GND (power), 10 GND@ (power), 12 OUT
part B pins: @GND GND@9 (power), GND GND@8 (power)

## UPC1237HA
designator U?
GateName_1: G$1; SymbolName_1: UPC1237HA; LibraryName: Audio-Power-amlifier; DeviceSetName: UPC1237HA; Package: SIP8
footprint SIP8
pins: 1, 2, 3, 4, 5, 6, 7, 8